# EAGLE library part DRV8825PWP (library NEWARK)
STEPPER MOTOR CONTROLLER IC,HTSSOP-28
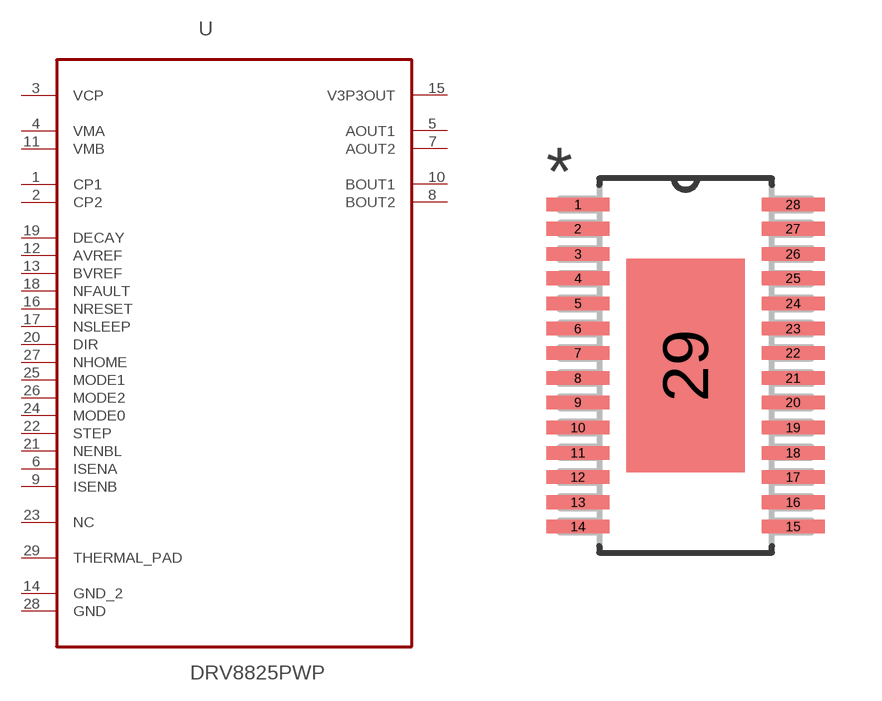
[diagram p1: symbol with the pads of SOP65P640X120-29N; footprint SOP65P640X120-29N]

Designator prefix U

## DRV8825PWP (MPN: DRV8825PWP; OC_FARNELL: 1903642; OC_NEWARK: 48T4143; PACKAGE: HTSSOP-28; SUPPLIER: TEXAS INSTRUMENTS)  [SOP65P640X120-29N]
1  CP1
2  CP2
3  VCP
4  VMA  pwr
5  AOUT1  out
6  ISENA
7  AOUT2  out
8  BOUT2  out
9  ISENB
10  BOUT1  out
11  VMB  pwr
12  AVREF  in
13  BVREF  in
14  GND_2  pas
15  V3P3OUT  out
16  NRESET  in
17  NSLEEP  in
18  NFAULT  in
19  DECAY  in
20  DIR  in
21  NENBL  in
22  STEP  in
23  NC  nc
24  MODE0  in
25  MODE1  in
26  MODE2  in
27  NHOME  in
28  GND  pas
29  THERMAL_PAD  pas

## Footprint SOP65P640X120-29N (pad centres in mm)
smd 1.651 x 0.356: 1 -2.819,4.216; 2 -2.819,3.581; 3 -2.819,2.921; 4 -2.819,2.286; 5 -2.819,1.626; 6 -2.819,0.965; 7 -2.819,0.33; 8 -2.819,-0.33; 9 -2.819,-0.965; 10 -2.819,-1.626; 11 -2.819,-2.286; 12 -2.819,-2.921; 13 -2.819,-3.581; 14 -2.819,-4.216; 15 2.819,-4.216; 16 2.819,-3.581; 17 2.819,-2.921; 18 2.819,-2.286; 19 2.819,-1.626; 20 2.819,-0.965; 21 2.819,-0.33; 22 2.819,0.33; 23 2.819,0.965; 24 2.819,1.626; 25 2.819,2.286; 26 2.819,2.921; 27 2.819,3.581; 28 2.819,4.216
smd 3.099 x 5.588: 29 0,0